# Altium schematic symbol library Schlib1.SchLib: 1 symbol
Pins are listed as number, name and electrical type; pins without a type are passive.

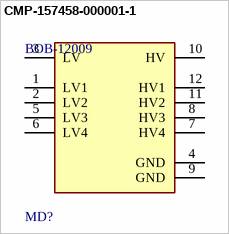
[diagram p0: symbol CMP-157458-000001-1]

## CMP-157458-000001-1
designator MD?, comment BOB-12009
LOGIC LEVEL CONVERTER - BI-DIREC; Logic Function: Translator
footprint FP-BOB-12009-MFG
pins: 1 LV1, 2 LV2, 3 LV, 4 GND (power), 5 LV3, 6 LV4, 7 HV4, 8 HV3, 9 GND (power), 10 HV, 11 HV2, 12 HV1